# EAGLE library part ADUM3223_TRANSE_DIP (library Shohei)
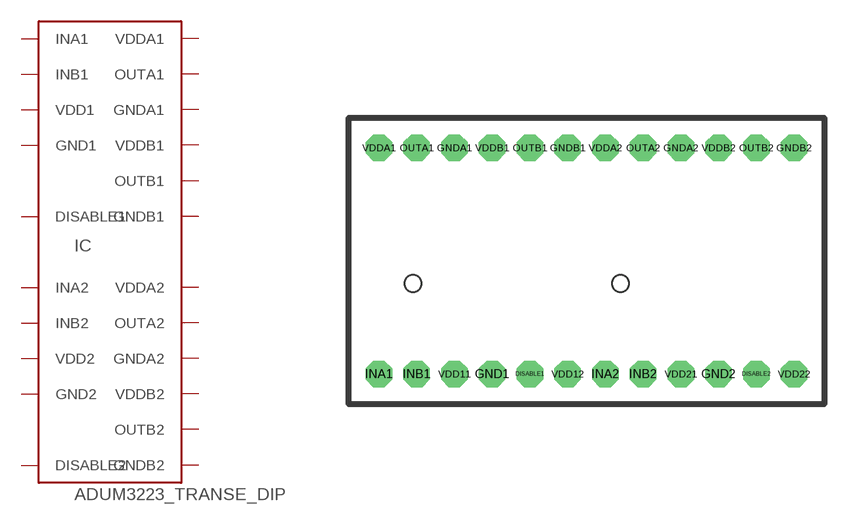
[diagram p2: symbol with the pads of ADUM3223_TRANSE_DIP_1.1.0; footprint ADUM3223_TRANSE_DIP_1.1.0]

Designator prefix IC

## ADUM3223_TRANSE_DIP  [ADUM3223_TRANSE_DIP_1.1.0]
DISABLE1  DISABLE1
DISABLE2  DISABLE2
GND1  GND1  pwr
GND2  GND2  pwr
GNDA1  GNDA1  pwr
GNDA2  GNDA2  pwr
GNDB1  GNDB1  pwr
GNDB2  GNDB2  pwr
INA1  INA1
INA2  INA2
INB1  INB1
INB2  INB2
OUTA1  OUTA1
OUTA2  OUTA2
OUTB1  OUTB1
OUTB2  OUTB2
VDD11  VDD1  sup
VDD12  VDD1  sup
VDD21  VDD2  sup
VDD22  VDD2  sup
VDDA1  VDDA1  sup
VDDA2  VDDA2  sup
VDDB1  VDDB1  sup
VDDB2  VDDB2  sup

## Footprint ADUM3223_TRANSE_DIP_1.1.0 (pad centres in mm)
drill 0.8 pad 1.778 octagon: DISABLE1 -3.81,-7.62; DISABLE2 11.43,-7.62; GND1 -6.35,-7.62; GND2 8.89,-7.62; GNDA1 -8.89,7.62; GNDA2 6.35,7.62; GNDB1 -1.27,7.62; GNDB2 13.97,7.62; INA1 -13.97,-7.62; INA2 1.27,-7.62; INB1 -11.43,-7.62; INB2 3.81,-7.62; OUTA1 -11.43,7.62; OUTA2 3.81,7.62; OUTB1 -3.81,7.62; OUTB2 11.43,7.62; VDD11 -8.89,-7.62; VDD12 -1.27,-7.62; VDD21 6.35,-7.62; VDD22 13.97,-7.62; VDDA1 -13.97,7.62; VDDA2 1.27,7.62; VDDB1 -6.35,7.62; VDDB2 8.89,7.62